# Altium footprint library Kondensator_DIP.PcbLib: 222 footprints (part 1 of 14)
Each footprint in its own frame and in the unit in brackets; x right, y up, seen from the top. Pads: shape width x height; smd on the part's side, far side on the other; paste and mask are expansions set on the pad; w line width, h text height; cw(c..) or ccw(c..) is an arc to the next point about the centre after c.
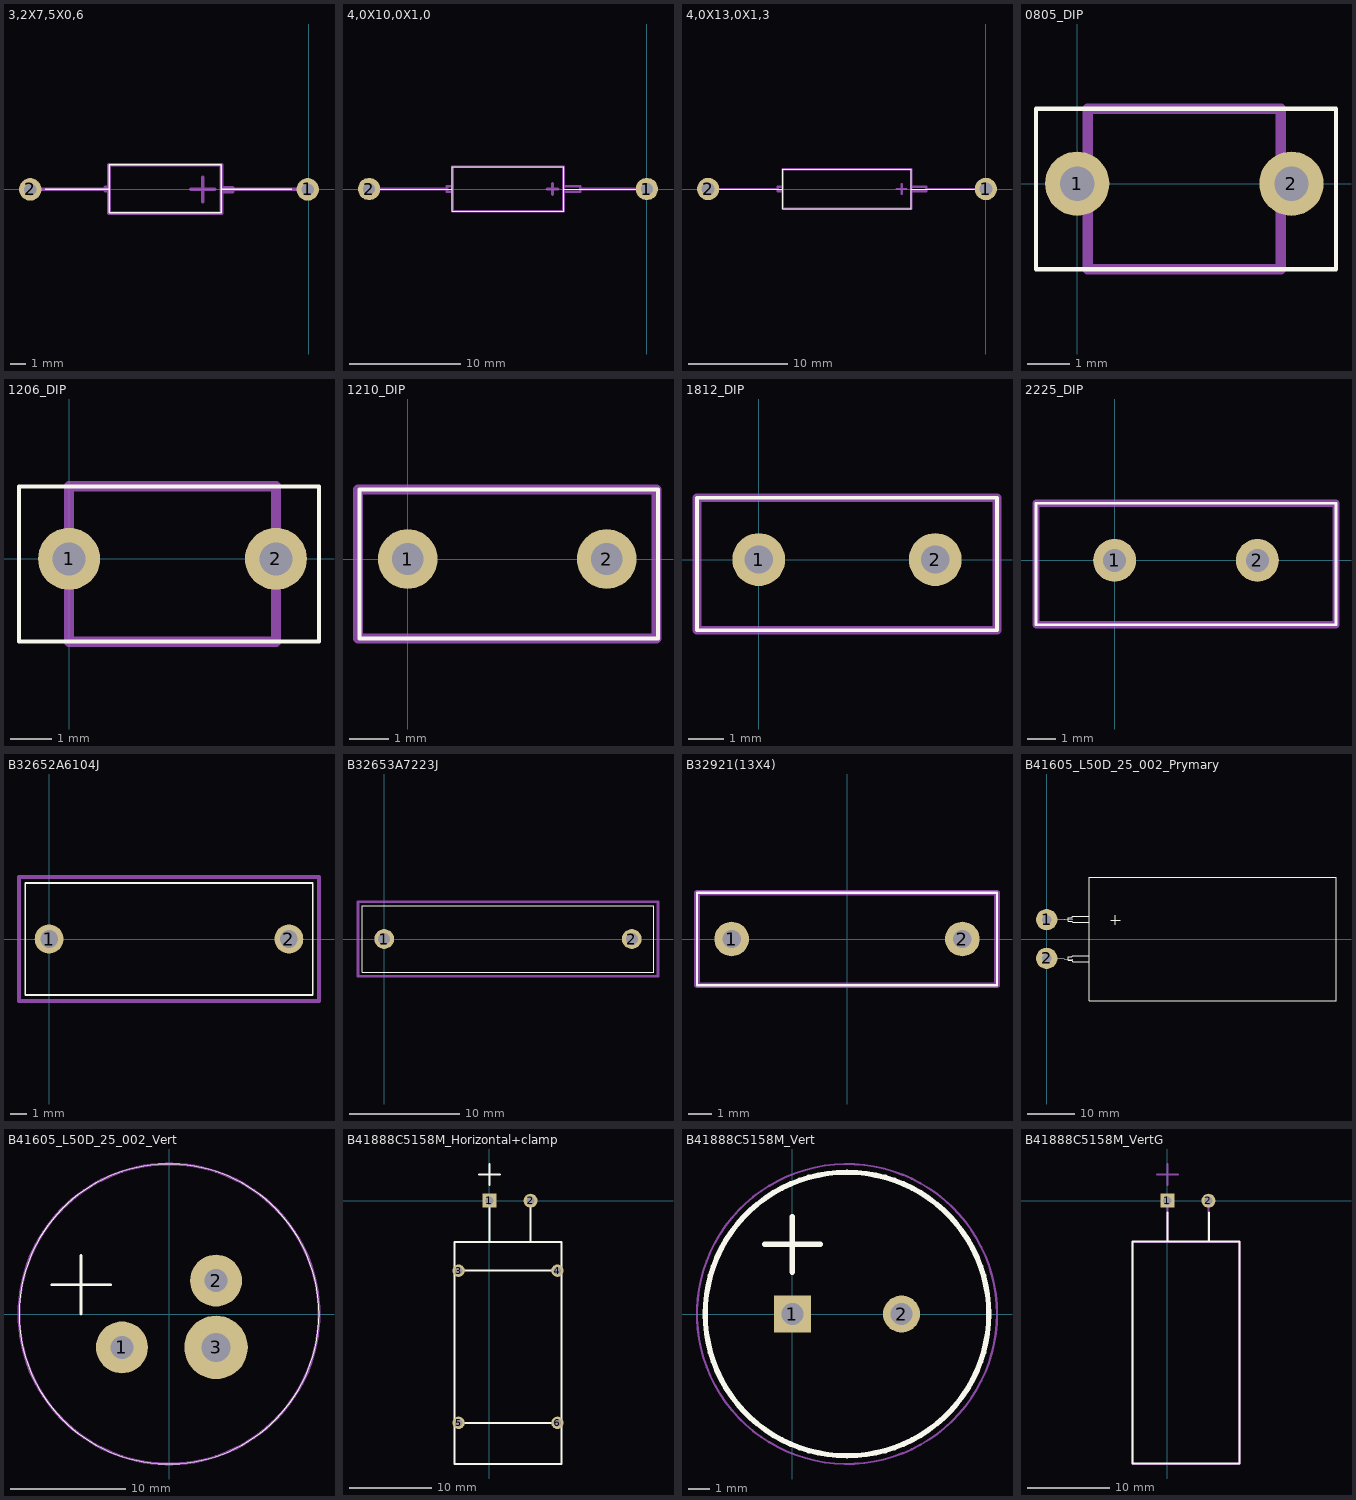
[diagram p0: the footprints below, top view; thin cyan lines are the x and y axes]

## 3,2X7,5X0,6 [mm]
pads (2):
  round 1.5 hole 0.8: 1(-0.05,0) 2(-18.55,0)
Top Overlay:
  lines w0.1: -17.55,0 -13.3,0 ; -5.8,0 -1.1,0 ; -13.3,0 -13.3,-1.55 -13.25,-1.55 -5.8,-1.55 -5.8,1.65 -13.3,1.65 -13.3,0
Mechanical 1:
  lines w0.25: -18.55,0 -13.55,0 ; -13.3,-0.1 -13.55,-0.1 -13.55,0.15 -13.3,0.15 ; -7.85,0 -6.25,0 ; -7.05,-0.8 -7.05,0 -7.05,0.8 ; -5.8,-0.15 -5.05,-0.15 -5.05,0.1 -5.8,0.1 ; -5.05,0 -0.05,0 ; -13.3,-1.6 -5.8,-1.6 -5.8,1.65 -13.3,1.65 -13.3,-1.6

## 4,0X10,0X1,0 [mm]
pads (2):
  round 2 hole 1.1: 1(0,0) 2(-25,0)
Top Overlay:
  lines w0.1: -25,0 -17.5,0 ; -7.5,0 0,0 ; -17.5,-2 -7.5,-2 -7.5,2 -17.5,2 -17.5,-2
Mechanical 1:
  lines w0.25: -25,0 -18,0 ; -17.5,-0.25 -18,-0.25 -18,0.25 -17.5,0.25 ; -9,0 -8,0 ; -8.5,-0.5 -8.5,0.5 ; -7.5,-0.25 -6,-0.25 -6,0.25 -7.5,0.25 ; -6,0 0,0 ; -17.5,-2 -7.5,-2 -7.5,2 -17.5,2 -17.5,-2

## 4,0X13,0X1,3 [mm]
pads (2):
  round 2.25 hole 1.3: 1(0,0) 2(-28,0)
Top Overlay:
  lines w0.1: -28,0 -20.5,0 ; -7.5,0 0,0 ; -20.5,-2 -7.5,-2 -7.5,2 -20.5,2 -20.5,-2
Mechanical 1:
  lines w0.25: -28,0 -21,0 ; -20.5,-0.25 -21,-0.25 -21,0.25 -20.5,0.25 ; -9,0 -8,0 ; -8.5,-0.5 -8.5,0.5 ; -7.5,-0.25 -6,-0.25 -6,0.25 -7.5,0.25 ; -6,0 0,0 ; -20.5,-2 -7.5,-2 -7.5,2 -20.5,2 -20.5,-2

## 0805_DIP [mm]
pads (2):
  round 1.5 hole 0.8: 1(0,0) 2(5,0)
Top Overlay:
  lines w0.1: -0.96,-2 6.04,-2 6.04,1.75 -0.96,1.75 -0.96,-2
Mechanical 1:
  lines w0.25: 0.25,-2 4.75,-2 4.75,1.75 0.25,1.75 0.25,-2

## 1206_DIP [mm]
pads (2):
  round 1.5 hole 0.8: 1(0,0) 2(5,0)
Top Overlay:
  lines w0.1: -1.21,-2 6.04,-2 6.04,1.75 -1.21,1.75 -1.21,-2
Mechanical 1:
  lines w0.25: 0,-2 5,-2 5,1.75 0,1.75 0,-2

## 1210_DIP [mm]
pads (2):
  round 1.5 hole 0.8: 1(0,0) 2(5,0)
Top Overlay:
  lines w0.1: -1.21,-2 6.29,-2 6.29,1.75 -1.21,1.75 -1.21,-2
Mechanical 1:
  lines w0.25: -1.25,-2 6.25,-2 6.25,1.75 -1.25,1.75 -1.25,-2

## 1812_DIP [mm]
pads (2):
  round 1.5 hole 0.8: 1(0,0) 2(5,0)
Top Overlay:
  lines w0.1: -1.75,-2 6.75,-2 6.75,1.75 -1.75,1.75 -1.75,-2
Mechanical 1:
  lines w0.25: -1.75,-2 6.75,-2 6.75,1.75 -1.75,1.75 -1.75,-2

## 2225_DIP [mm]
pads (2):
  round 1.5 hole 0.8: 1(0,0) 2(5,0)
Top Overlay:
  lines w0.1: -2.75,-2.25 7.75,-2.25 7.75,2 -2.75,2 -2.75,-2.25
Mechanical 1:
  lines w0.25: -2.75,-2.25 7.75,-2.25 7.75,2 -2.75,2 -2.75,-2.25

## B32652A6104J [mm]
pads (2):
  round 1.8 hole 1.1: 1(0,0) 2(15,0)
Top Overlay:
  lines w0.1: -1.5,-3.5 16.5,-3.5 16.5,3.5 -1.5,3.5 -1.5,-3.5
Mechanical 1:
  lines w0.25: -1.88,-3.88 16.88,-3.88 16.88,3.88 -1.88,3.88 -1.88,-3.88

## B32653A7223J [mm]
pads (2):
  round 1.8 hole 1.1: 1(0,0) 2(22.5,0)
Top Overlay:
  lines w0.1: -2,-3 24.5,-3 24.5,3 -2,3 -2,-3
Mechanical 1:
  lines w0.25: -2.38,-3.38 24.88,-3.38 24.88,3.38 -2.38,3.38 -2.38,-3.38

## B32921(13X4) [mm]
pads (2):
  round 1.5 hole 0.8: 1(-5,0) 2(5,0)
Top Overlay:
  lines w0.1: -6.5,-2 0,-2 6.5,-2 6.5,0 6.5,2 0,2 -6.5,2 -6.5,0 -6.5,-2
Mechanical 1:
  lines w0.25: -6.5,-2 6.5,-2 6.5,2 -6.5,2 -6.5,-2

## B41605_L50D_25_002_Prymary [mm]
pads (2):
  round 4.5 hole 2: 1(0,4.08) 2(0,-4.08)
Top Overlay:
  lines w0.1: 9,-4.75 5.5,-4.75 5.25,-4.5 4.5,-4.5 4.5,-3.75 5.25,-3.75 5.5,-3.5 9,-3.5 ; 9,3.5 5.5,3.5 5.25,3.75 4.5,3.75 4.5,4.5 5.25,4.5 5.5,4.75 9,4.75
  lines w0.25: 0,-4 5.5,-4.25 ; 0,4 5.5,4.25 ; 13.5,4 15.5,4 ; 14.5,3 14.5,5 ; 9,-13 61,-13 61,13 9,13 9,-13

## B41605_L50D_25_002_Vert [mm]
pads (3):
  round 4.5 hole 2: 1(-4.08,-2.89) 2(4.08,2.89)
  round 5.5 hole 2.5: 3(4.08,-2.89)
Top Overlay:
  circle w0.1: c0,0 r13
  lines w0.25: -10.16,2.54 -5.08,2.54 ; -7.62,0 -7.62,5.08
Mechanical 1:
  circle w0.25: c0,0 r13
  lines w0.2: -10.16,2.54 -5.08,2.54 ; -7.62,0 -7.62,5.08

## B41888C5158M_Horizontal+clamp [mm]
pads (6):
  rect 1.7x1.7 hole 1: 1(0,0)
  round 1.7 hole 1: 2(5,0)
  round 1.5 hole 0.9: 3(-3.75,-8.5) 4(8.25,-8.5) 5(-3.75,-27) 6(8.25,-27)
Top Overlay:
  lines w0.25: -4.25,-27 8.75,-27 ; -4.25,-8.5 8.75,-8.5 ; 0,-5 0,0 ; 5,-5 5,0 ; -4.25,-32 8.75,-32 8.75,-5 -4.25,-5 -4.25,-32
  lines w0.254: -1.27,3.195 1.27,3.195 ; 0,1.925 0,4.465

## B41888C5158M_Vert [mm]
pads (2):
  rect 1.7x1.7 hole 1: 1(0,0)
  round 1.7 hole 1: 2(5,0)
Top Overlay:
  circle w0.25: c2.5,0 r6.5
  lines w0.254: -1.27,3.195 1.27,3.195 ; 0,1.925 0,4.465
Mechanical 1:
  circle w0.1: c2.5,0 r6.875

## B41888C5158M_VertG [mm]
pads (2):
  rect 1.7x1.7 hole 1: 1(0,0)
  round 1.7 hole 1: 2(5,0)
Top Overlay:
  lines w0.25: 0.04,-4.95 0.04,-1.45 ; 5.04,-4.95 5.04,-1.45 ; -4.21,-31.95 8.79,-31.95 8.79,-4.95 -4.21,-4.95 -4.21,-31.95
Mechanical 1:
  lines w0.25: 0,-5 0,0 ; 5,-5 5,0 ; -4.25,-32 8.75,-32 8.75,-5 -4.25,-5 -4.25,-32
  lines w0.254: -1.27,3.195 1.27,3.195 ; 0,1.925 0,4.465